# EAGLE library part 693061010911 (library EAGLE-INPUT_OUTPUT_CONNECTORS-rev17c)
WR-CRD SD CARD CONNECTOR PUSH & PUSH WITH CARD DETECTION 9 PINS=>Code : Con_I-O_COM_CRD_SD_Normal_693061010911 <http://katalog.we-online.de/media/images/eican/Con_I-O_COM_CRD_SD_Normal_693061010911_pf2.jpg> Details see: http://katalog.we-online.de/em/datasheet/693061010911.pdf Created 2014-07-09, Karrer Zheng 2014 (C) Würth Elektronik
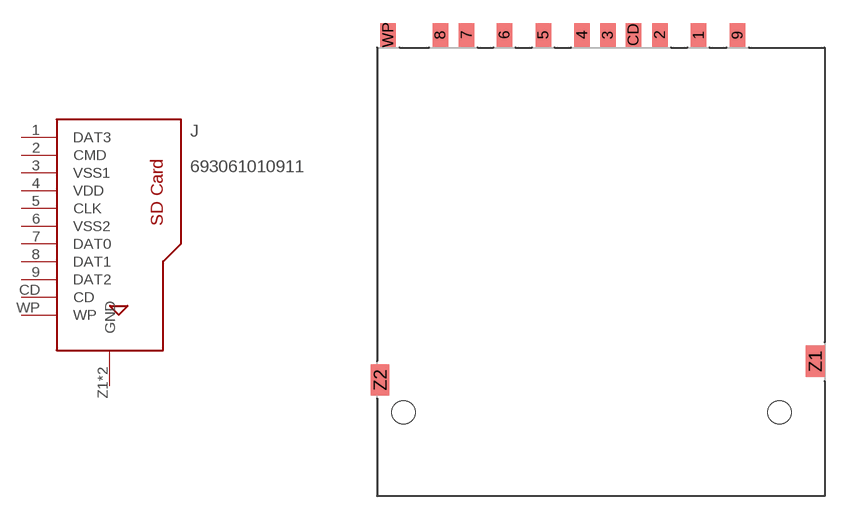
[diagram p88: symbol with the pads of 693061010911; footprint 693061010911]

Designator prefix J

## 693061010911  [693061010911]
1  DAT3
2  CMD
3  VSS1
4  VDD
5  CLK
6  VSS2
7  DAT0
8  DAT1
9  DAT2
CD  CD
WP  WP
Z1  GND
Z2  GND

## Footprint 693061010911 (pad centres in mm)
WR-CRD SD CARD CONNECTOR PUSH & PUSH WITH CARD DETECTION 9 PINS
smd 1 x 1.5: 1 6.9,24.31; 2 4.4,24.31; 3 1.05,24.31; 4 -0.6,24.31; 5 -3.1,24.31; 6 -5.6,24.31; 7 -8.03,24.31; 8 -9.73,24.31; 9 9.4,24.31; CD 2.7,24.31; WP -13.08,24.31
smd 1.2 x 2: Z1 14.4,3.3; Z2 -13.6,2.1
hole 1.5 at -12.1,0
hole 1.5 at 12.1,0